# EAGLE library part SDCARD_JACK (library foe-scale)
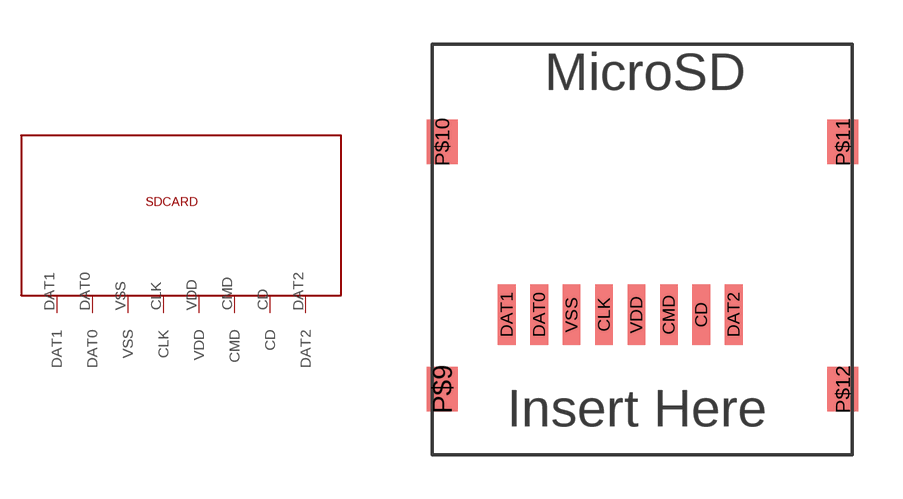
[diagram p16: symbol with the pads of MICRO_SDCARD; footprint MICRO_SDCARD]

Designator prefix -

## SDCARD_JACK  [MICRO_SDCARD]
CD  CD
CLK  CLK
CMD  CMD
DAT0  DAT0
DAT1  DAT1
DAT2  DAT2
VDD  VDD
VSS  VSS

## Footprint MICRO_SDCARD (pad centres in mm)
smd 0.6 x 2.05: CD 6.6,0; CLK 3.3,0; CMD 5.5,0; DAT0 1.1,0; DAT1 0,0; DAT2 7.7,0; VDD 4.4,0; VSS 2.2,0
smd 1.05 x 1.5: P$9 -2.195,-2.53; P$10 -2.195,5.87; P$11 11.405,5.87; P$12 11.405,-2.53